# Altium schematic symbol library Minion_Rev2.SchLib: 13 symbols (part 2 of 2)
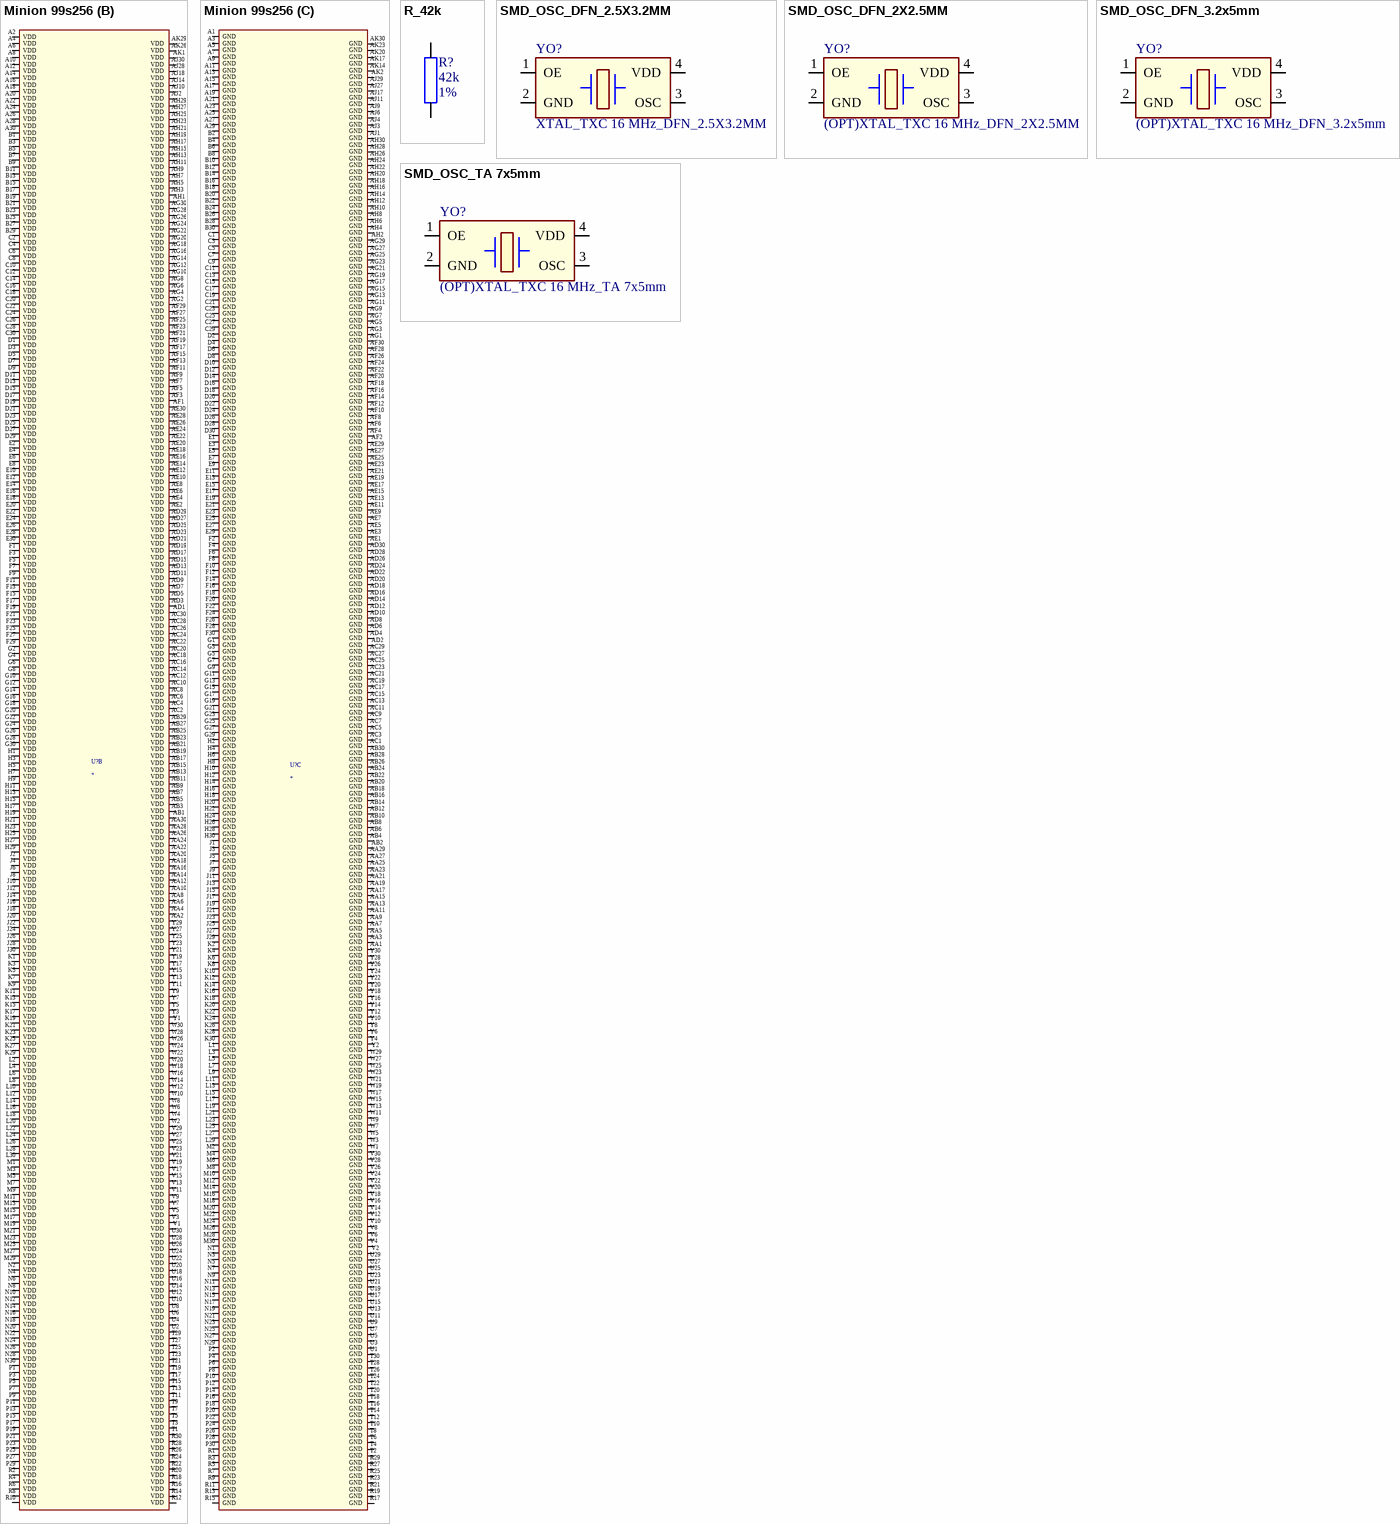
[diagram p6: symbols Minion 99s256 to SMD_OSC_TA 7x5mm]

## Minion 99s256
designator U?
footprint SMD_BGA900C80P30X30
part A pins: AJ5 LED_SPI, AJ7 LED_HOT, AJ8 LED_IDLE, AJ12 TSHUT_AVDD18, AJ13 POR_IOVSEL, AJ15 PLL_AVDD, AJ16 PLL_AVDD2, AJ19 IO_VDD, AJ20 CHIP_ADDR0, AJ21 CHIP_ADDR2, AJ22 CHIP_ADDR4, AJ23 IO_VDD, AJ24 SPI_MISO, AJ25 SPI_CSN, AJ26 SPI_MODE, AK3 TEST_MODE, AK4 IO_VDD, AK5 LED_CLK, AK6 IO_VDD, AK7 LED_NONCE, AK8 LED_BUSY, AK9 LED_POWER, AK10 IO_VDD, AK11 TSHUT_AGND18, AK12 POR_AGND18, AK13 POR_AVDD18, AK15 PLL_AVSS, AK16 PLL_AVSS2, AK18 XTAL12M_OUT, AK19 XTAL12M_IN, AK21 CHIP_ADDR1, AK22 CHIP_ADDR3, AK24 INT_OUT, AK25 SPI_MOSI, AK27 SPI_CLK, AK28 RSTN_IN
part B pins:  AB1 VDD,  AD1 VDD,  AF1 VDD,  AH1 VDD,  AK1 VDD,  V1 VDD,  Y1 VDD, A2 VDD, A4 VDD, A6 VDD, A8 VDD, A10 VDD, A12 VDD, A14 VDD, A16 VDD, A18 VDD, A20 VDD, A22 VDD, A24 VDD, A26 VDD, A28 VDD, A30 VDD, AA2 VDD, AA4 VDD, AA6 VDD, AA8 VDD, AA10 VDD, AA12 VDD, AA14 VDD, AA16 VDD, AA18 VDD, AA20 VDD, AA22 VDD, AA24 VDD, AA26 VDD, AA28 VDD, AA30 VDD, AB3 VDD, AB5 VDD, AB7 VDD, AB9 VDD, AB11 VDD, AB13 VDD, AB15 VDD, AB17 VDD, AB19 VDD, AB21 VDD, AB23 VDD, AB25 VDD, AB27 VDD, AB29 VDD, AC2 VDD, AC4 VDD, AC6 VDD, AC8 VDD, AC10 VDD, AC12 VDD, AC14 VDD, AC16 VDD, AC18 VDD, AC20 VDD, AC22 VDD, AC24 VDD, AC26 VDD, AC28 VDD, AC30 VDD, AD3 VDD, AD5 VDD, AD7 VDD, AD9 VDD, AD11 VDD, AD13 VDD, AD15 VDD, AD17 VDD, AD19 VDD, AD21 VDD, AD23 VDD, AD25 VDD, AD27 VDD, AD29 VDD, AE2 VDD, AE4 VDD, AE6 VDD, AE8 VDD, AE10 VDD, AE12 VDD, AE14 VDD, AE16 VDD, AE18 VDD, AE20 VDD, AE22 VDD, AE24 VDD, AE26 VDD, AE28 VDD, AE30 VDD, AF3 VDD, AF5 VDD, AF7 VDD, AF9 VDD, AF11 VDD, AF13 VDD, AF15 VDD, AF17 VDD, AF19 VDD, AF21 VDD, AF23 VDD, AF25 VDD, AF27 VDD, AF29 VDD, AG2 VDD, AG4 VDD, AG6 VDD, AG8 VDD, AG10 VDD, AG12 VDD, AG14 VDD, AG16 VDD, AG18 VDD, AG20 VDD, AG22 VDD, AG24 VDD, AG26 VDD, AG28 VDD, AG30 VDD, AH3 VDD, AH5 VDD, AH7 VDD, AH9 VDD, AH11 VDD, AH13 VDD, AH15 VDD, AH17 VDD, AH19 VDD, AH21 VDD, AH23 VDD, AH25 VDD, AH27 VDD, AH29 VDD, AJ2 VDD, AJ10 VDD, AJ14 VDD, AJ18 VDD, AJ28 VDD, AJ30 VDD, AK26 VDD, AK29 VDD, B1 VDD, B3 VDD, B5 VDD, B7 VDD, B9 VDD, B11 VDD, B13 VDD, B15 VDD, B17 VDD, B19 VDD, B21 VDD, B23 VDD, B25 VDD, B27 VDD, B29 VDD, C2 VDD, C4 VDD, C6 VDD, C8 VDD, C10 VDD, C12 VDD, C14 VDD, C16 VDD, C18 VDD, C20 VDD, C22 VDD, C24 VDD, C26 VDD, C28 VDD, C30 VDD, D1 VDD, D3 VDD, D5 VDD, D7 VDD, D9 VDD, D11 VDD, D13 VDD, D15 VDD, D17 VDD, D19 VDD, D21 VDD, D23 VDD, D25 VDD, D27 VDD, D29 VDD, E2 VDD, E4 VDD, E6 VDD, E8 VDD, E10 VDD, E12 VDD, E14 VDD, E16 VDD, E18 VDD, E20 VDD, E22 VDD, E24 VDD, E26 VDD, E28 VDD, E30 VDD, F1 VDD, F3 VDD, F5 VDD, F7 VDD, F9 VDD, F11 VDD, F13 VDD, F15 VDD, F17 VDD, F19 VDD, F21 VDD, F23 VDD, F25 VDD, F27 VDD, F29 VDD, G2 VDD, G4 VDD, G6 VDD, G8 VDD, G10 VDD, G12 VDD, G14 VDD, G16 VDD, G18 VDD, G20 VDD, G22 VDD, G24 VDD, G26 VDD, G28 VDD, G30 VDD, H1 VDD, H3 VDD, H5 VDD, H7 VDD, H9 VDD, H11 VDD, H13 VDD, H15 VDD, H17 VDD, H19 VDD, H21 VDD, H23 VDD, H25 VDD, H27 VDD, H29 VDD, J2 VDD, J4 VDD, J6 VDD, J8 VDD, J10 VDD, J12 VDD, J14 VDD, J16 VDD, J18 VDD, J20 VDD, J22 VDD, J24 VDD, J26 VDD, J28 VDD, J30 VDD, K1 VDD, K3 VDD, K5 VDD, K7 VDD, K9 VDD, K11 VDD, K13 VDD, K15 VDD, K17 VDD, K19 VDD, K21 VDD, K23 VDD, K25 VDD, K27 VDD, K29 VDD, L2 VDD, L4 VDD, L6 VDD, L8 VDD, L10 VDD, L12 VDD, L14 VDD, L16 VDD, L18 VDD, L20 VDD, L22 VDD, L24 VDD, L26 VDD, L28 VDD, L30 VDD, M1 VDD, M3 VDD, M5 VDD, M7 VDD, M9 VDD, M11 VDD, M13 VDD, M15 VDD, M17 VDD, M19 VDD, M21 VDD, M23 VDD, M25 VDD, M27 VDD, M29 VDD, N2 VDD, N4 VDD, N6 VDD, N8 VDD, N10 VDD, N12 VDD, N14 VDD, N16 VDD, N18 VDD, N20 VDD, N22 VDD, N24 VDD, N26 VDD, N28 VDD, N30 VDD, P1 VDD, P3 VDD, P5 VDD, P7 VDD, P9 VDD, P11 VDD, P13 VDD, P15 VDD, P17 VDD, P19 VDD, P21 VDD, P23 VDD, P25 VDD, P27 VDD, P29 VDD, R2 VDD, R4 VDD, R6 VDD, R8 VDD, R10 VDD, R12 VDD, R14 VDD, R16 VDD, R18 VDD, R20 VDD, R22 VDD, R24 VDD, R26 VDD, R28 VDD, R30 VDD, T1 VDD, T3 VDD, T5 VDD, T7 VDD, T9 VDD, T11 VDD, T13 VDD, T15 VDD, T17 VDD, T19 VDD, T21 VDD, T23 VDD, T25 VDD, T27 VDD, T29 VDD, U2 VDD, U4 VDD, U6 VDD, U8 VDD, U10 VDD, U12 VDD, U14 VDD, U16 VDD, U18 VDD, U20 VDD, U22 VDD, U24 VDD, U26 VDD, U28 VDD, U30 VDD, V3 VDD, V5 VDD, V7 VDD, V9 VDD, V11 VDD, V13 VDD, V15 VDD, V17 VDD, V19 VDD, V21 VDD, V23 VDD, V25 VDD, V27 VDD, V29 VDD, W2 VDD, W4 VDD, W6 VDD, W8 VDD, W10 VDD, W12 VDD, W14 VDD, W16 VDD, W18 VDD, W20 VDD, W22 VDD, W24 VDD, W26 VDD, W28 VDD, W30 VDD, Y3 VDD, Y5 VDD, Y7 VDD, Y9 VDD, Y11 VDD, Y13 VDD, Y15 VDD, Y17 VDD, Y19 VDD, Y21 VDD, Y23 VDD, Y25 VDD, Y27 VDD, Y29 VDD
part C pins:  AB2 GND,  AD2 GND,  AF2 GND,  AH2 GND,  AK2 GND,  V2 GND,  Y2 GND, A1 GND, A3 GND, A5 GND, A7 GND, A9 GND, A11 GND, A13 GND, A15 GND, A17 GND, A19 GND, A21 GND, A23 GND, A25 GND, A27 GND, A29 GND, AA1 GND, AA3 GND, AA5 GND, AA7 GND, AA9 GND, AA11 GND, AA13 GND, AA15 GND, AA17 GND, AA19 GND, AA21 GND, AA23 GND, AA25 GND, AA27 GND, AA29 GND, AB4 GND, AB6 GND, AB8 GND, AB10 GND, AB12 GND, AB14 GND, AB16 GND, AB18 GND, AB20 GND, AB22 GND, AB24 GND, AB26 GND, AB28 GND, AB30 GND, AC1 GND, AC3 GND, AC5 GND, AC7 GND, AC9 GND, AC11 GND, AC13 GND, AC15 GND, AC17 GND, AC19 GND, AC21 GND, AC23 GND, AC25 GND, AC27 GND, AC29 GND, AD4 GND, AD6 GND, AD8 GND, AD10 GND, AD12 GND, AD14 GND, AD16 GND, AD18 GND, AD20 GND, AD22 GND, AD24 GND, AD26 GND, AD28 GND, AD30 GND, AE1 GND, AE3 GND, AE5 GND, AE7 GND, AE9 GND, AE11 GND, AE13 GND, AE15 GND, AE17 GND, AE19 GND, AE21 GND, AE23 GND, AE25 GND, AE27 GND, AE29 GND, AF4 GND, AF6 GND, AF8 GND, AF10 GND, AF12 GND, AF14 GND, AF16 GND, AF18 GND, AF20 GND, AF22 GND, AF24 GND, AF26 GND, AF28 GND, AF30 GND, AG1 GND, AG3 GND, AG5 GND, AG7 GND, AG9 GND, AG11 GND, AG13 GND, AG15 GND, AG17 GND, AG19 GND, AG21 GND, AG23 GND, AG25 GND, AG27 GND, AG29 GND, AH4 GND, AH6 GND, AH8 GND, AH10 GND, AH12 GND, AH14 GND, AH16 GND, AH18 GND, AH20 GND, AH22 GND, AH24 GND, AH26 GND, AH28 GND, AH30 GND, AJ1 GND, AJ3 GND, AJ4 GND, AJ6 GND, AJ9 GND, AJ11 GND, AJ17 GND, AJ27 GND, AJ29 GND, AK14 GND, AK17 GND, AK20 GND, AK23 GND, AK30 GND, B2 GND, B4 GND, B6 GND, B8 GND, B10 GND, B12 GND, B14 GND, B16 GND, B18 GND, B20 GND, B22 GND, B24 GND, B26 GND, B28 GND, B30 GND, C1 GND, C3 GND, C5 GND, C7 GND, C9 GND, C11 GND, C13 GND, C15 GND, C17 GND, C19 GND, C21 GND, C23 GND, C25 GND, C27 GND, C29 GND, D2 GND, D4 GND, D6 GND, D8 GND, D10 GND, D12 GND, D14 GND, D16 GND, D18 GND, D20 GND, D22 GND, D24 GND, D26 GND, D28 GND, D30 GND, E1 GND, E3 GND, E5 GND, E7 GND, E9 GND, E11 GND, E13 GND, E15 GND, E17 GND, E19 GND, E21 GND, E23 GND, E25 GND, E27 GND, E29 GND, F2 GND, F4 GND, F6 GND, F8 GND, F10 GND, F12 GND, F14 GND, F16 GND, F18 GND, F20 GND, F22 GND, F24 GND, F26 GND, F28 GND, F30 GND, G1 GND, G3 GND, G5 GND, G7 GND, G9 GND, G11 GND, G13 GND, G15 GND, G17 GND, G19 GND, G21 GND, G23 GND, G25 GND, G27 GND, G29 GND, H2 GND, H4 GND, H6 GND, H8 GND, H10 GND, H12 GND, H14 GND, H16 GND, H18 GND, H20 GND, H22 GND, H24 GND, H26 GND, H28 GND, H30 GND, J1 GND, J3 GND, J5 GND, J7 GND, J9 GND, J11 GND, J13 GND, J15 GND, J17 GND, J19 GND, J21 GND, J23 GND, J25 GND, J27 GND, J29 GND, K2 GND, K4 GND, K6 GND, K8 GND, K10 GND, K12 GND, K14 GND, K16 GND, K18 GND, K20 GND, K22 GND, K24 GND, K26 GND, K28 GND, K30 GND, L1 GND, L3 GND, L5 GND, L7 GND, L9 GND, L11 GND, L13 GND, L15 GND, L17 GND, L19 GND, L21 GND, L23 GND, L25 GND, L27 GND, L29 GND, M2 GND, M4 GND, M6 GND, M8 GND, M10 GND, M12 GND, M14 GND, M16 GND, M18 GND, M20 GND, M22 GND, M24 GND, M26 GND, M28 GND, M30 GND, N1 GND, N3 GND, N5 GND, N7 GND, N9 GND, N11 GND, N13 GND, N15 GND, N17 GND, N19 GND, N21 GND, N23 GND, N25 GND, N27 GND, N29 GND, P2 GND, P4 GND, P6 GND, P8 GND, P10 GND, P12 GND, P14 GND, P16 GND, P18 GND, P20 GND, P22 GND, P24 GND, P26 GND, P28 GND, P30 GND, R1 GND, R3 GND, R5 GND, R7 GND, R9 GND, R11 GND, R13 GND, R15 GND, R17 GND, R19 GND, R21 GND, R23 GND, R25 GND, R27 GND, R29 GND, T2 GND, T4 GND, T6 GND, T8 GND, T10 GND, T12 GND, T14 GND, T16 GND, T18 GND, T20 GND, T22 GND, T24 GND, T26 GND, T28 GND, T30 GND, U1 GND, U3 GND, U5 GND, U7 GND, U9 GND, U11 GND, U13 GND, U15 GND, U17 GND, U19 GND, U21 GND, U23 GND, U25 GND, U27 GND, U29 GND, V4 GND, V6 GND, V8 GND, V10 GND, V12 GND, V14 GND, V16 GND, V18 GND, V20 GND, V22 GND, V24 GND, V26 GND, V28 GND, V30 GND, W1 GND, W3 GND, W5 GND, W7 GND, W9 GND, W11 GND, W13 GND, W15 GND, W17 GND, W19 GND, W21 GND, W23 GND, W25 GND, W27 GND, W29 GND, Y4 GND, Y6 GND, Y8 GND, Y10 GND, Y12 GND, Y14 GND, Y16 GND, Y18 GND, Y20 GND, Y22 GND, Y24 GND, Y26 GND, Y28 GND, Y30 GND

## R_42k
designator R?  DB_VALUE: 42k  DB_TOLERANCE: 1%  (hidden comment: R_42k)
DB_PART_NUMBER: RES000001590; DB_PART_TYPE: SMD; DB_MANUFACTURER_PART: YAGEO    RC0603FR-0741K2; NOTE: <NOTE>; R_BDS: R; DB_T_RANGE: -55 to 155; DB_POWER: 1/10W; DB_PACKAGE: 0603; DB_DESCRIPTION: R SMD 41K2 1% 1/10W 0603; DB_PCB_DEVICE: SMD_0603_RESC1608X55N; DB_CERTIFIED: ISHIDDEN=T; DB_PRICE: 0.00063; DB_MOQ: 5000; DB_APPROVED_ON: 09.10.2010 г.; DB_STATUS: NEW; DB_PRICE_DATE: 2010-12-23; DB_APPROVED_BY: ISHIDDEN=T; DB_DATASHEET: http://john.epiqdesign.com/projects/CIS_Datasheets/PYu-RC0603_51_RoHS_L_4_YAGEO.pdf?rev=138&sc=0
footprint SMD_0603_RESC1608X55N
pins: 1, 2

## SMD_OSC_DFN_2.5X3.2MM
designator YO?, comment XTAL_TXC 16 MHz_DFN_2.5X3.2MM
NOTE: <NOTE>
footprint SMD_OSC_TA 7x5mm
footprint SMD_OSC_DFN_2.5X3.2MM
pins: 1 OE, 2 GND, 3 OSC, 4 VDD

## SMD_OSC_DFN_2X2.5MM
designator YO?, comment (OPT)XTAL_TXC 16 MHz_DFN_2X2.5MM
NOTE: <NOTE>
footprint SMD_OSC_TA 7x5mm
footprint SMD_OSC_DFN_2.5X3.2MM
footprint SMD_OSC_DFN_2X2.5MM
pins: 1 OE, 2 GND, 3 OSC, 4 VDD

## SMD_OSC_DFN_3.2x5mm
designator YO?, comment (OPT)XTAL_TXC 16 MHz_DFN_3.2x5mm
NOTE: <NOTE>
footprint SMD_OSC_TA 7x5mm
footprint SMD_OSC_DFN_3.2x5mm
pins: 1 OE, 2 GND, 3 OSC, 4 VDD

## SMD_OSC_TA 7x5mm
designator YO?, comment (OPT)XTAL_TXC 16 MHz_TA 7x5mm
NOTE: <NOTE>
footprint SMD_OSC_TA 7x5mm
pins: 1 OE, 2 GND, 3 OSC, 4 VDD